# Altium schematic symbol library sd_card_hirose.SchLib: 1 symbol
Pins are listed as number, name and electrical type; pins without a type are passive.

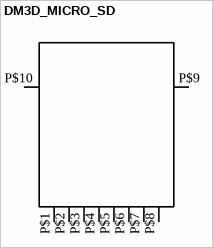
[diagram p0: symbol DM3D_MICRO_SD]

## DM3D_MICRO_SD
designator J?  (value not drawn)
Value: *
footprint HIROSE_DM3D_DM3D_MICRO_SD(Primary)
pins: P$1 DAT1 (io), P$2 DAT0 (io), P$3 VSS (io), P$4 CLK (io), P$5 VDD (io), P$6 CMD (io), P$7 CD_DAT3 (io), P$8 DAT2 (io), P$9 DET_B (io), P$10 DET_A (io)